# Altium schematic symbol library M150.SchLib: 2 symbols
Pins are listed as number, name and electrical type; pins without a type are passive.

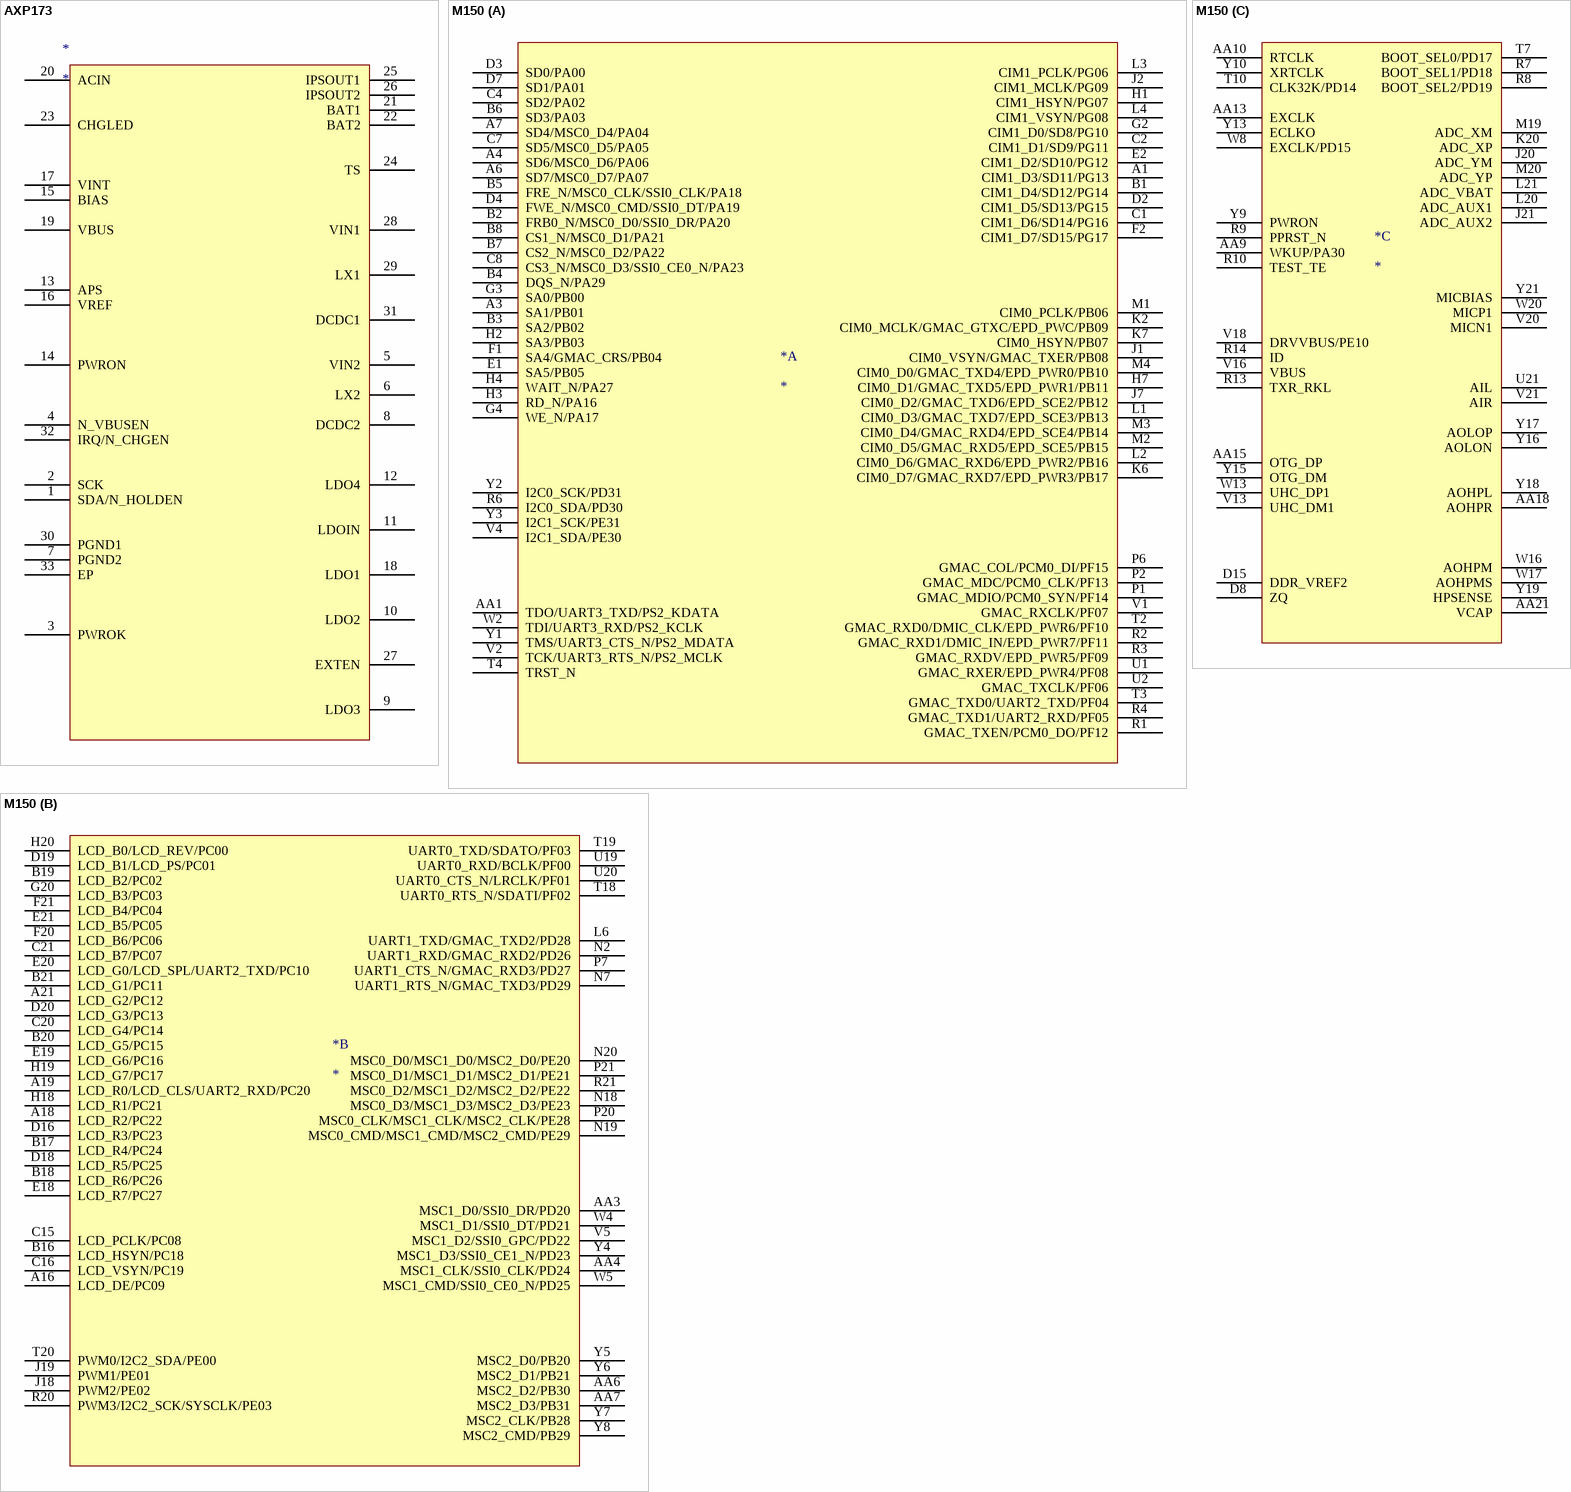
[diagram p0: symbols AXP173 to M150]

## AXP173
designator *
pins: 1 SDA/N_HOLDEN, 2 SCK, 3 PWROK, 4 N_VBUSEN, 5 VIN2, 6 LX2, 7 PGND2, 8 DCDC2, 9 LDO3, 10 LDO2, 11 LDOIN, 12 LDO4, 13 APS, 14 PWRON, 15 BIAS, 16 VREF, 17 VINT, 18 LDO1, 19 VBUS, 20 ACIN, 21 BAT1, 22 BAT2, 23 CHGLED, 24 TS, 25 IPSOUT1, 26 IPSOUT2, 27 EXTEN, 28 VIN1, 29 LX1, 30 PGND1, 31 DCDC1, 32 IRQ/N_CHGEN, 33 EP

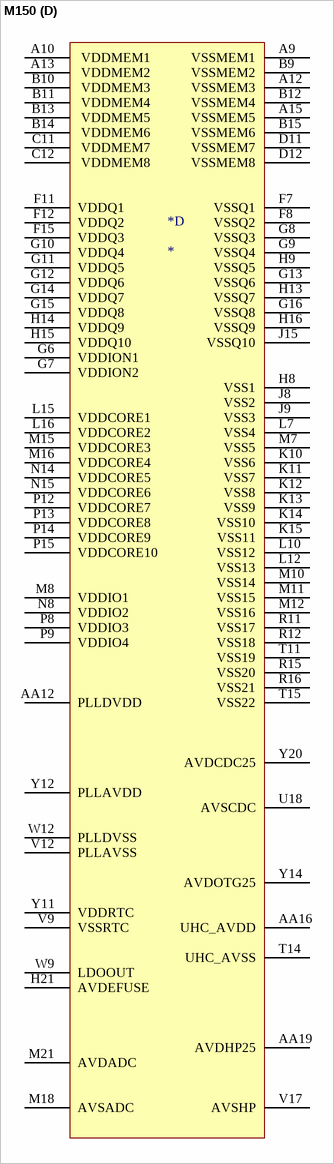
[diagram p1: symbol M150]

## M150
designator *
footprint Model Name (Footprint not found)
part A pins: A1 CIM1_D3/SD11/PG13, A3 SA1/PB01, A4 SD6/MSC0_D6/PA06, A6 SD7/MSC0_D7/PA07, A7 SD4/MSC0_D4/PA04, AA1 TDO/UART3_TXD/PS2_KDATA, B1 CIM1_D4/SD12/PG14, B2 FRB0_N/MSC0_D0/SSI0_DR/PA20, B3 SA2/PB02, B4 DQS_N/PA29, B5 FRE_N/MSC0_CLK/SSI0_CLK/PA18, B6 SD3/PA03, B7 CS2_N/MSC0_D2/PA22, B8 CS1_N/MSC0_D1/PA21, C1 CIM1_D6/SD14/PG16, C2 CIM1_D1/SD9/PG11, C4 SD2/PA02, C7 SD5/MSC0_D5/PA05, C8 CS3_N/MSC0_D3/SSI0_CE0_N/PA23, D2 CIM1_D5/SD13/PG15, D3 SD0/PA00, D4 FWE_N/MSC0_CMD/SSI0_DT/PA19, D7 SD1/PA01, E1 SA5/PB05, E2 CIM1_D2/SD10/PG12, F1 SA4/GMAC_CRS/PB04, F2 CIM1_D7/SD15/PG17, G2 CIM1_D0/SD8/PG10, G3 SA0/PB00, G4 WE_N/PA17, H1 CIM1_HSYN/PG07, H2 SA3/PB03, H3 RD_N/PA16, H4 WAIT_N/PA27, H7 CIM0_D1/GMAC_TXD5/EPD_PWR1/PB11, J1 CIM0_VSYN/GMAC_TXER/PB08, J2 CIM1_MCLK/PG09, J7 CIM0_D2/GMAC_TXD6/EPD_SCE2/PB12, K2 CIM0_MCLK/GMAC_GTXC/EPD_PWC/PB09, K6 CIM0_D7/GMAC_RXD7/EPD_PWR3/PB17, K7 CIM0_HSYN/PB07, L1 CIM0_D3/GMAC_TXD7/EPD_SCE3/PB13, L2 CIM0_D6/GMAC_RXD6/EPD_PWR2/PB16, L3 CIM1_PCLK/PG06, L4 CIM1_VSYN/PG08, M1 CIM0_PCLK/PB06, M2 CIM0_D5/GMAC_RXD5/EPD_SCE5/PB15, M3 CIM0_D4/GMAC_RXD4/EPD_SCE4/PB14, M4 CIM0_D0/GMAC_TXD4/EPD_PWR0/PB10, P1 GMAC_MDIO/PCM0_SYN/PF14, P2 GMAC_MDC/PCM0_CLK/PF13, P6 GMAC_COL/PCM0_DI/PF15, R1 GMAC_TXEN/PCM0_DO/PF12, R2 GMAC_RXD1/DMIC_IN/EPD_PWR7/PF11, R3 GMAC_RXDV/EPD_PWR5/PF09, R4 GMAC_TXD1/UART2_RXD/PF05, R6 I2C0_SDA/PD30, T2 GMAC_RXD0/DMIC_CLK/EPD_PWR6/PF10, T3 GMAC_TXD0/UART2_TXD/PF04, T4 TRST_N, U1 GMAC_RXER/EPD_PWR4/PF08, U2 GMAC_TXCLK/PF06, V1 GMAC_RXCLK/PF07, V2 TCK/UART3_RTS_N/PS2_MCLK, V4 I2C1_SDA/PE30, W2 TDI/UART3_RXD/PS2_KCLK, Y1 TMS/UART3_CTS_N/PS2_MDATA, Y2 I2C0_SCK/PD31, Y3 I2C1_SCK/PE31
part B pins: A16 LCD_DE/PC09, A18 LCD_R2/PC22, A19 LCD_R0/LCD_CLS/UART2_RXD/PC20, A21 LCD_G2/PC12, AA3 MSC1_D0/SSI0_DR/PD20, AA4 MSC1_CLK/SSI0_CLK/PD24, AA6 MSC2_D2/PB30, AA7 MSC2_D3/PB31, B16 LCD_HSYN/PC18, B17 LCD_R4/PC24, B18 LCD_R6/PC26, B19 LCD_B2/PC02, B20 LCD_G5/PC15, B21 LCD_G1/PC11, C15 LCD_PCLK/PC08, C16 LCD_VSYN/PC19, C20 LCD_G4/PC14, C21 LCD_B7/PC07, D16 LCD_R3/PC23, D18 LCD_R5/PC25, D19 LCD_B1/LCD_PS/PC01, D20 LCD_G3/PC13, E18 LCD_R7/PC27, E19 LCD_G6/PC16, E20 LCD_G0/LCD_SPL/UART2_TXD/PC10, E21 LCD_B5/PC05, F20 LCD_B6/PC06, F21 LCD_B4/PC04, G20 LCD_B3/PC03, H18 LCD_R1/PC21, H19 LCD_G7/PC17, H20 LCD_B0/LCD_REV/PC00, J18 PWM2/PE02, J19 PWM1/PE01, L6 UART1_TXD/GMAC_TXD2/PD28, N2 UART1_RXD/GMAC_RXD2/PD26, N7 UART1_RTS_N/GMAC_TXD3/PD29, N18 MSC0_D3/MSC1_D3/MSC2_D3/PE23, N19 MSC0_CMD/MSC1_CMD/MSC2_CMD/PE29, N20 MSC0_D0/MSC1_D0/MSC2_D0/PE20, P7 UART1_CTS_N/GMAC_RXD3/PD27, P20 MSC0_CLK/MSC1_CLK/MSC2_CLK/PE28, P21 MSC0_D1/MSC1_D1/MSC2_D1/PE21, R20 PWM3/I2C2_SCK/SYSCLK/PE03, R21 MSC0_D2/MSC1_D2/MSC2_D2/PE22, T18 UART0_RTS_N/SDATI/PF02, T19 UART0_TXD/SDATO/PF03, T20 PWM0/I2C2_SDA/PE00, U19 UART0_RXD/BCLK/PF00, U20 UART0_CTS_N/LRCLK/PF01, V5 MSC1_D2/SSI0_GPC/PD22, W4 MSC1_D1/SSI0_DT/PD21, W5 MSC1_CMD/SSI0_CE0_N/PD25, Y4 MSC1_D3/SSI0_CE1_N/PD23, Y5 MSC2_D0/PB20, Y6 MSC2_D1/PB21, Y7 MSC2_CLK/PB28, Y8 MSC2_CMD/PB29
part C pins: AA9 WKUP/PA30, AA10 RTCLK, AA13 EXCLK, AA15 OTG_DP, AA18 AOHPR, AA21 VCAP, D8 ZQ, D15 DDR_VREF2, J20 ADC_YM, J21 ADC_AUX2, K20 ADC_XP, L20 ADC_AUX1, L21 ADC_VBAT, M19 ADC_XM, M20 ADC_YP, R7 BOOT_SEL1/PD18, R8 BOOT_SEL2/PD19, R9 PPRST_N, R10 TEST_TE, R13 TXR_RKL, R14 ID, T7 BOOT_SEL0/PD17, T10 CLK32K/PD14, U21 AIL, V13 UHC_DM1, V16 VBUS, V18 DRVVBUS/PE10, V20 MICN1, V21 AIR, W8 EXCLK/PD15, W13 UHC_DP1, W16 AOHPM, W17 AOHPMS, W20 MICP1, Y9 PWRON, Y10 XRTCLK, Y13 ECLKO, Y15 OTG_DM, Y16 AOLON, Y17 AOLOP, Y18 AOHPL, Y19 HPSENSE, Y21 MICBIAS
part D pins: A9 VSSMEM1, A10  VDDMEM1, A12 VSSMEM3, A13  VDDMEM2, A15 VSSMEM5, AA12 PLLDVDD, AA16 UHC_AVDD, AA19 AVDHP25, B9 VSSMEM2, B10  VDDMEM3, B11  VDDMEM4, B12 VSSMEM4, B13  VDDMEM5, B14  VDDMEM6, B15 VSSMEM6, C11  VDDMEM7, C12  VDDMEM8, D11 VSSMEM7, D12 VSSMEM8, F7 VSSQ1, F8 VSSQ2, F11 VDDQ1, F12 VDDQ2, F15 VDDQ3, G6 VDDION1, G7 VDDION2, G8 VSSQ3, G9 VSSQ4, G10 VDDQ4, G11 VDDQ5, G12 VDDQ6, G13 VSSQ6, G14 VDDQ7, G15 VDDQ8, G16 VSSQ8, H8 VSS1, H9 VSSQ5, H13 VSSQ7, H14 VDDQ9, H15 VDDQ10, H16 VSSQ9, H21 AVDEFUSE, J8 VSS2, J9 VSS3, J15 VSSQ10, K10 VSS6, K11 VSS7, K12 VSS8, K13 VSS9, K14 VSS10, K15 VSS11, L7 VSS4, L10 VSS12, L12 VSS13, L15 VDDCORE1, L16 VDDCORE2, M7 VSS5, M8 VDDIO1, M10 VSS14, M11 VSS15, M12 VSS16, M15 VDDCORE3, M16 VDDCORE4, M18 AVSADC, M21 AVDADC, N8 VDDIO2, N14 VDDCORE5, N15 VDDCORE6, P8 VDDIO3, P9 VDDIO4, P12 VDDCORE7, P13 VDDCORE8, P14 VDDCORE9, P15 VDDCORE10, R11 VSS17, R12 VSS18, R15 VSS20, R16 VSS21, T11 VSS19, T14 UHC_AVSS, T15 VSS22, U18 AVSCDC, V9 VSSRTC, V12 PLLAVSS, V17 AVSHP, W9 LDOOUT, W12 PLLDVSS, Y11 VDDRTC, Y12 PLLAVDD, Y14 AVDOTG25, Y20 AVDCDC25